# EAGLE library part DXM1-MINI (library untitled)
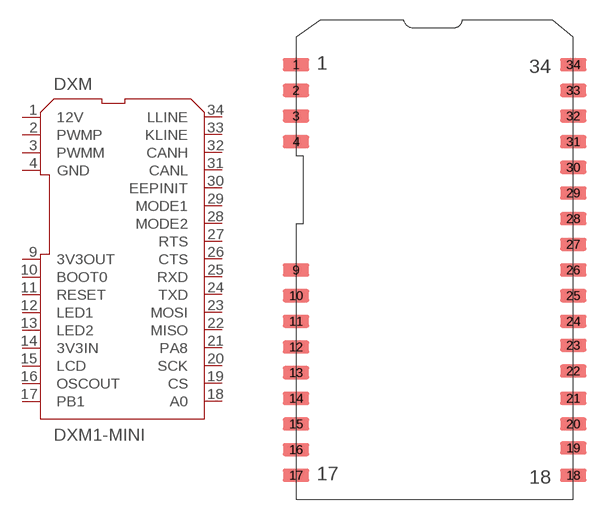
[diagram p0: symbol with the pads of DMX1-MINI; footprint DMX1-MINI]

Designator prefix DXM

## DXM1-MINI  [DMX1-MINI]
1  12V  pwr
2  PWMP
3  PWMM
4  GND  pwr
9  3V3OUT  pwr
10  BOOT0
11  RESET
12  LED1
13  LED2
14  3V3IN  pwr
15  LCD
16  OSCOUT
17  PB1
18  A0
19  CS
20  SCK
21  PA8
22  MISO
23  MOSI
24  TXD
25  RXD
26  CTS
27  RTS
28  MODE2  pwr
29  MODE1  pwr
30  EEPINIT
31  CANL
32  CANH
33  KLINE
34  LLINE  pwr

## Footprint DMX1-MINI (pad centres in mm)
smd 1.93 x 0.965: 1 0,32.258; 2 0,30.353; 3 0,28.448; 4 0,26.543; 9 0,17.018; 10 0,15.113; 11 0,13.208; 12 0,11.303; 13 0,9.398; 14 0,7.493; 15 0,5.588; 16 0,3.683; 17 0,1.778; 18 20.574,1.778; 19 20.574,3.81; 20 20.574,5.588; 21 20.574,7.493; 22 20.574,9.525; 23 20.574,11.43; 24 20.574,13.208; 25 20.574,15.113; 26 20.574,17.018; 27 20.574,18.923; 28 20.574,20.828; 29 20.574,22.733; 30 20.574,24.638; 31 20.574,26.543; 32 20.574,28.448; 33 20.574,30.353; 34 20.574,32.258